# EAGLE library part DAPLINK_KL26Z (library ArtemisDevKit)
Unfinished! This is an interface MCU that runs DAPLink to enable advanced features for the target MCU
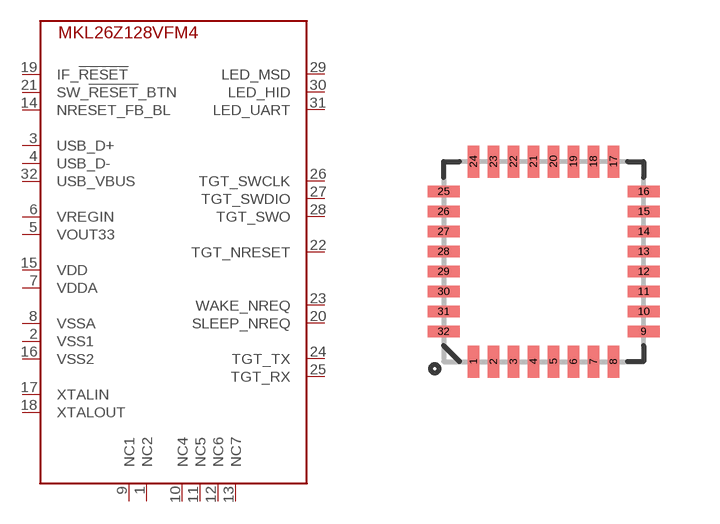
[diagram p0: symbol with the pads of QFN-32-NOPAD; footprint QFN-32-NOPAD]

Designator prefix U

## DAPLINK_KL26Z  [QFN-32-NOPAD]
1  NC2
2  VSS1
3  USB_D+
4  USB_D-
5  VOUT33
6  VREGIN
7  VDDA
8  VSSA
9  NC1
10  NC4
11  NC5
12  NC6
13  NC7
14  NRESET_FB_BL
15  VDD
16  VSS2
17  XTALIN
18  XTALOUT
19  IF_!RESET
20  SLEEP_NREQ
21  SW_!RESET!_BTN
22  TGT_NRESET
23  WAKE_NREQ
24  TGT_TX
25  TGT_RX
26  TGT_SWCLK
27  TGT_SWDIO
28  TGT_SWO
29  LED_MSD
30  LED_HID
31  LED_UART
32  USB_VBUS

## Footprint QFN-32-NOPAD (pad centres in mm)
QFN 32-Pin package w/ Thermal Pad ***Unproven*** Applicable Parts: TLC5940
smd 0.285 x 0.8: 1 -1.75,-2.5; 2 -1.25,-2.5; 3 -0.75,-2.5; 4 -0.25,-2.5; 5 0.25,-2.5; 6 0.75,-2.5; 7 1.25,-2.5; 8 1.75,-2.5; 17 1.75,2.5; 18 1.25,2.5; 19 0.75,2.5; 20 0.25,2.5; 21 -0.25,2.5; 22 -0.75,2.5; 23 -1.25,2.5; 24 -1.75,2.5
smd 0.8 x 0.285: 9 2.5,-1.75; 10 2.5,-1.25; 11 2.5,-0.75; 12 2.5,-0.25; 13 2.5,0.25; 14 2.5,0.75; 15 2.5,1.25; 16 2.5,1.75; 25 -2.5,1.75; 26 -2.5,1.25; 27 -2.5,0.75; 28 -2.5,0.25; 29 -2.5,-0.25; 30 -2.5,-0.75; 31 -2.5,-1.25; 32 -2.5,-1.75